# Altium schematic symbol library 野火_EBF6ULL S1 Mini 底板_V1.0_原理图封装_AD格式.SCHLIB: 67 symbols
Pins are listed as number, name and electrical type; pins without a type are passive.

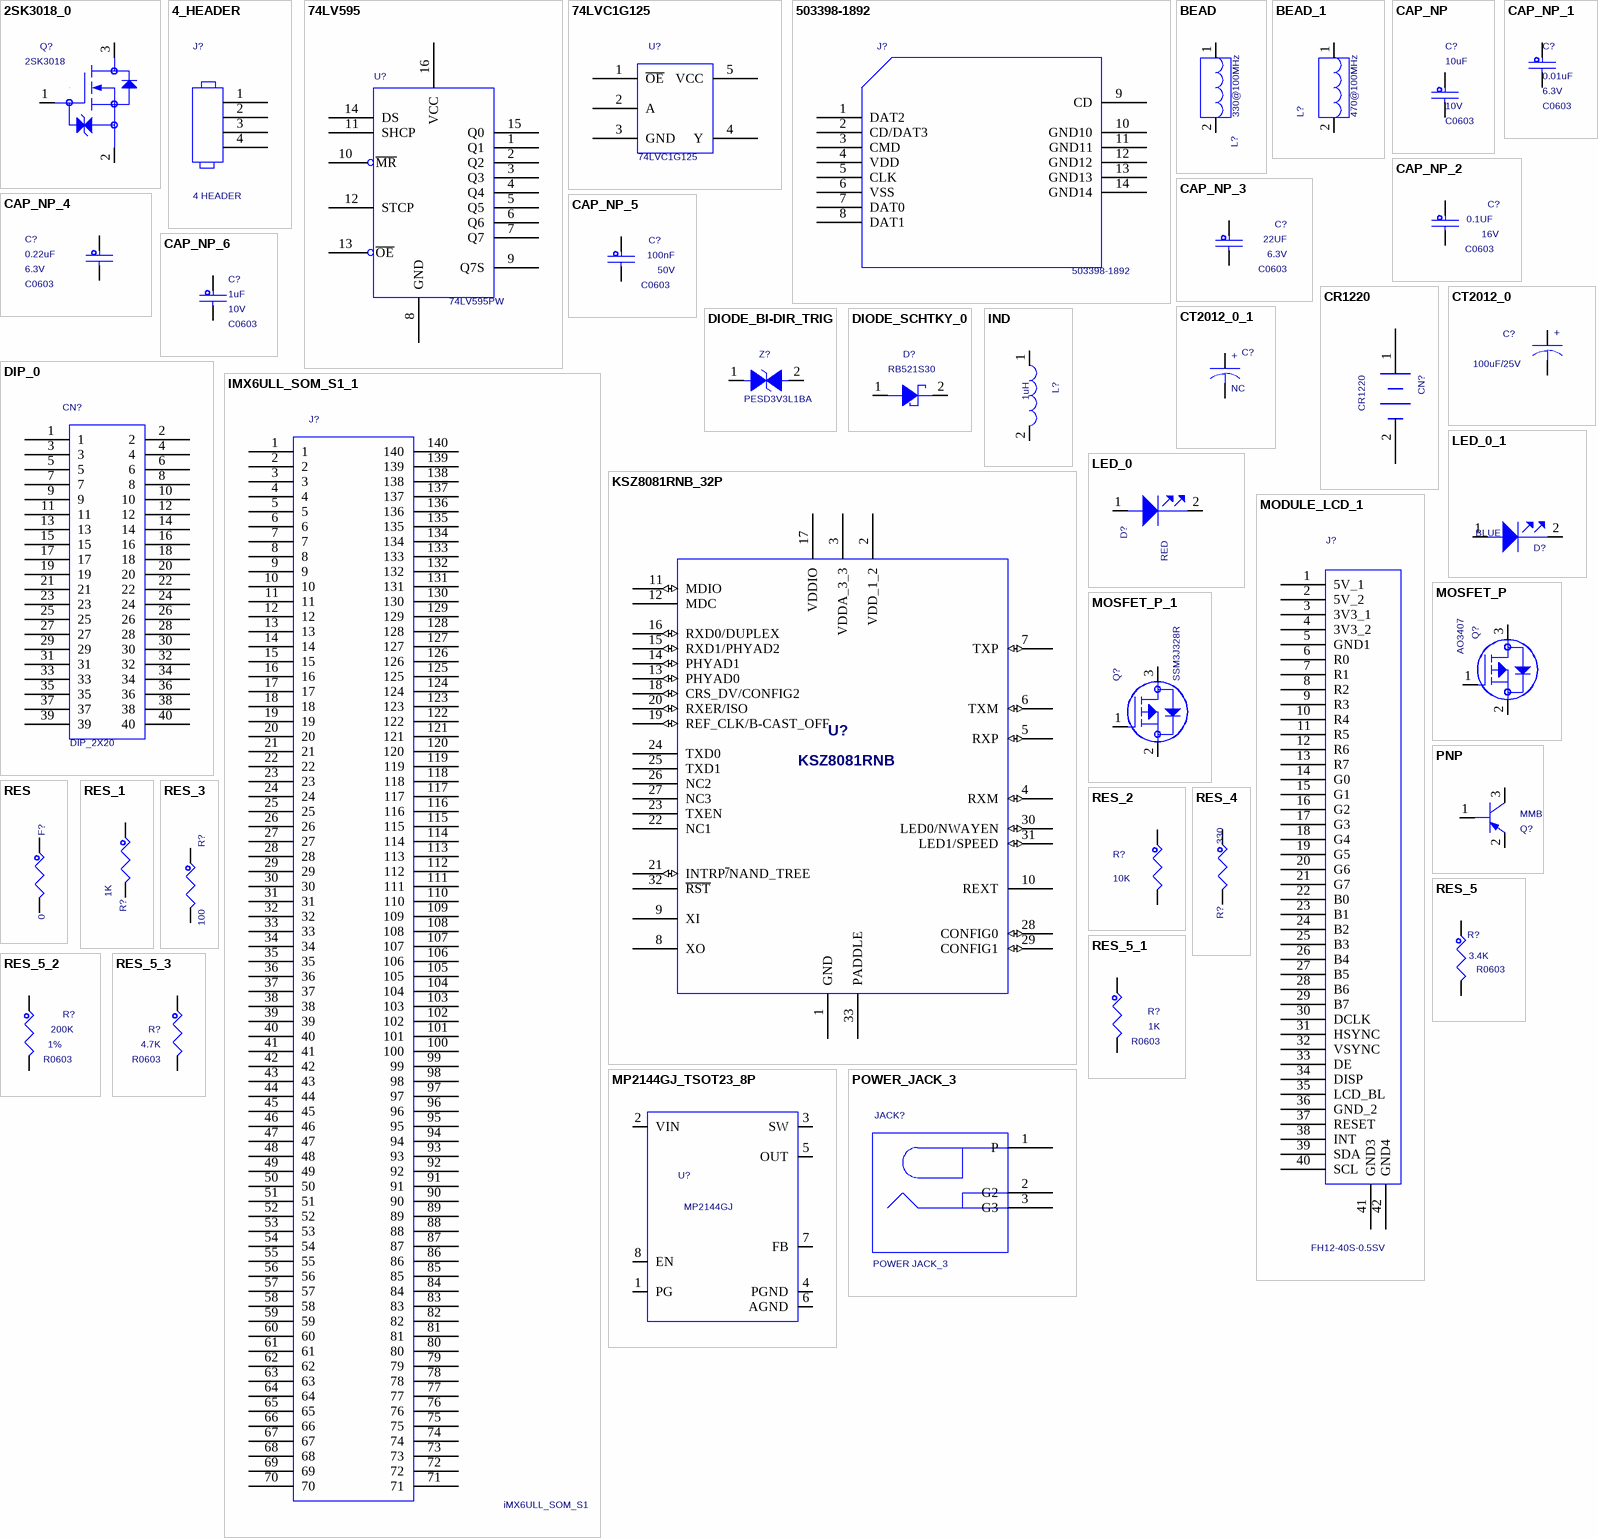
[diagram p0: symbols 2SK3018_0 to RES_5_3]

## 2SK3018_0
designator Q?  value 2SK3018  (hidden comment: 2SK3018_0)
TRANS MOSFET N-CH 30V .1A SOT-323; PCB DECAL: SOT23; AGILE_PN: 480-75317; MFG_NAME01: ROHM; MFG_PN01: 2SK3018T106; CAD_APPROVED: Yes; Source_Path: H:\NXP_RT1050\SCH\CORE_SCH\IMXRT1052_180113.DSN; CLASS: IC; ROHS: Yes; HEIGHT: 0.9MM
footprint SOT23
pins: 1 GATE, 2 SOURCE, 3 DRAIN

## 4_HEADER
designator J?  value 4 HEADER  (hidden comment: 4_HEADER)
PCB DECAL: XH2P54-4P; Source_Path: C:\MYPROGRAM\CADENCE\SPB_16.6\TOOLS\CAPTURE\LIBRARY\CONNECTOR.OLB
footprint XH2P54-4P
pins: 1, 2, 3, 4

## 74LV595
designator U?  value 74LV595PW  (hidden comment: 74LV595)
IC REG S 8BIT TS 1.0-3.6V TSSOP16; CAD_APPROVED: Yes; MFG_NAME01: PHILIPS SEMICONDUCTOR; AGILE_PN: 312-79843; Source_Path: Q:\ORCADCIS\SYMBOLS\FCL_IC5.OLB; HEIGHT: 1.1MM; ROHS: Yes; MFG_PN01: 74LV595PW; PCB DECAL: TSSOP16; CLASS: IC
footprint TSSOP16
pins: 1 Q1, 2 Q2, 3 Q3, 4 Q4, 5 Q5, 6 Q6, 7 Q7, 8 GND (power), 9 Q7S, 10 ~{MR}, 11 SHCP, 12 STCP, 13 ~{OE}, 14 DS, 15 Q0, 16 VCC (power)

## 74LVC1G125
designator U?
PCB DECAL: SOT-353; Source_Path: C:\MYPROGRAM\CADENCE\SPB_16.6\TOOLS\CAPTURE\LIBRARY\SCH.OLB; Value: 74LVC1G125
footprint SOT-353
pins: 1 ~{OE}, 2 A, 3 GND, 4 Y, 5 VCC

## 503398-1892
designator J?
PCB DECAL: SD-503398-003; Source_Path: F:\SCH-PCB\EBF_L003\SCH\SCH.OLB; CLASS: IO; Value: 503398-1892
footprint SD-503398-003
pins: 1 DAT2, 2 CD/DAT3, 3 CMD, 4 VDD (power), 5 CLK, 6 VSS (power), 7 DAT0, 8 DAT1, 9 CD, 10 GND10, 11 GND11, 12 GND12, 13 GND13, 14 GND14

## BEAD
designator L?  value 330@100MHz  (hidden comment: BEAD)
IND FER BEAD 330OHM@100MHZ 1.7A 0603; PART_TYPE: FERRITE\BEAD; AGILE_PN: 180-78156; Tolerance: 25%; MFG_NAME01: TDK; MFG_PN01: MPZ1608S331A; CAD_APPROVED: Yes; PCB DECAL: L0603; Source_Path: Q:\ORCADCIS\SYMBOLS\FCL_INDUCTOR.OLB; CLASS: DISCRETE; ROHS: Yes; HEIGHT: 0.95MM; TOL: 25%
footprint L0603
pins: 1, 2

## BEAD_1
designator L?, comment value 470@100MHz  (hidden comment: BEAD)
IND FER BEAD 330OHM@100MHZ 1.7A 0603; PART_TYPE: FERRITE\BEAD; TOL: 25%; CAD_APPROVED: Yes; MFG_PN01: MPZ1608S331A; MFG_NAME01: TDK; AGILE_PN: 180-78156; PCB DECAL: L0603; Source_Path: Q:\ORCADCIS\SYMBOLS\FCL_INDUCTOR.OLB; CLASS: DISCRETE; HEIGHT: 0.95MM; ROHS: Yes; Tolerance: 25%
footprint L0603
pins: 1, 2

## CAP_NP
designator C?  value 10uF  PCB DECAL: C0603  voltage_rating: 10V  (hidden comment: CAP_NP)
CAP CER 22UF 6.3V 20% X5R 0603; FPLIST: CC0603_OV,CC0603,0603_CC; CAD_APPROVED: Yes; MFG_PN01: CL10A226MQ8NRNE; MFG_NAME01: Samsung; AGILE_PN: 150-78467; Source_Path: Q:\ORCADCIS\SYMBOLS\FCL_CAPACITOR.OLB; CLASS: DISCRETE; VOLTAGE: 6.3V; HEIGHT: 1MM; ROHS: Yes; Tolerance: 20%
footprint C0603
pins: 1, 2

## CAP_NP_1
designator C?, comment value 0.01uF  VOLTAGE: 6.3V  PCB DECAL: C0603  (hidden comment: CAP_NP)
CAP CER 0.22UF 6.3V 20% X5R 0402; FPLIST: CC0402_25,CC0402_HD,0402_CC; CAD_APPROVED: Yes; MFG_PN01: C0402C224M9PAC; MFG_NAME01: KEMET; AGILE_PN: 150-76271; Source_Path: Q:\ORCADCIS\SYMBOLS\FCL_CAPACITOR.OLB; CLASS: DISCRETE; HEIGHT: 0.55MM; ROHS: Yes; Tolerance: 20%
footprint C0603
pins: 1, 2

## CAP_NP_2
designator C?, comment value 0.1UF  PCB DECAL: C0603  voltage_rating: 16V  (hidden comment: CAP_NP)
CAP CER 22UF 6.3V 20% X5R 0603; FPLIST: CC0603_OV,CC0603,0603_CC; CAD_APPROVED: Yes; MFG_PN01: CL10A226MQ8NRNE; MFG_NAME01: Samsung; AGILE_PN: 150-78467; Source_Path: Q:\ORCADCIS\SYMBOLS\FCL_CAPACITOR.OLB; CLASS: DISCRETE; VOLTAGE: 6.3V; HEIGHT: 1MM; ROHS: Yes; Tolerance: 20%
footprint C0603
pins: 1, 2

## CAP_NP_3
designator C?, comment value 22UF  PCB DECAL: C0603  voltage_rating: 6.3V  (hidden comment: CAP_NP)
CAP CER 22UF 6.3V 20% X5R 0603; FPLIST: CC0603_OV,CC0603,0603_CC; CAD_APPROVED: Yes; MFG_PN01: CL10A226MQ8NRNE; MFG_NAME01: Samsung; AGILE_PN: 150-78467; Source_Path: Q:\ORCADCIS\SYMBOLS\FCL_CAPACITOR.OLB; CLASS: DISCRETE; VOLTAGE: 6.3V; HEIGHT: 1MM; ROHS: Yes; Tolerance: 20%
footprint C0603
pins: 1, 2

## CAP_NP_4
designator C?, comment value 0.22uF  VOLTAGE: 6.3V  PCB DECAL: C0603  (hidden comment: CAP_NP)
CAP CER 0.22UF 6.3V 20% X5R 0402; FPLIST: CC0402_25,CC0402_HD,0402_CC; CAD_APPROVED: Yes; MFG_PN01: C0402C224M9PAC; MFG_NAME01: KEMET; AGILE_PN: 150-76271; Source_Path: Q:\ORCADCIS\SYMBOLS\FCL_CAPACITOR.OLB; CLASS: DISCRETE; HEIGHT: 0.55MM; ROHS: Yes; Tolerance: 20%
footprint C0603
pins: 1, 2

## CAP_NP_5
designator C?, comment value 100nF  voltage_rating: 50V  PCB DECAL: C0603  (hidden comment: CAP_NP)
CAP CER 22UF 6.3V 20% X5R 0603; FPLIST: CC0603_OV,CC0603,0603_CC; CAD_APPROVED: Yes; MFG_PN01: CL10A226MQ8NRNE; MFG_NAME01: Samsung; AGILE_PN: 150-78467; Source_Path: Q:\ORCADCIS\SYMBOLS\FCL_CAPACITOR.OLB; CLASS: DISCRETE; VOLTAGE: 6.3V; HEIGHT: 1MM; ROHS: Yes; Tolerance: 20%
footprint C0603
pins: 1, 2

## CAP_NP_6
designator C?, comment value 1uF  PCB DECAL: C0603  voltage_rating: 10V  (hidden comment: CAP_NP)
CAP CER 22UF 6.3V 20% X5R 0603; AGILE_PN: 150-78467; MFG_NAME01: Samsung; MFG_PN01: CL10A226MQ8NRNE; CAD_APPROVED: Yes; FPLIST: CC0603_OV,CC0603,0603_CC; Source_Path: Q:\ORCADCIS\SYMBOLS\FCL_CAPACITOR.OLB; CLASS: DISCRETE; Tolerance: 20%; ROHS: Yes; HEIGHT: 1MM; VOLTAGE: 6.3V
footprint C0603
pins: 1, 2

## CR1220
designator CN?
Source_Path: H:\NXP_RT1050\SCH\SCHLIB\YHSCHLIB.OLB; PCB DECAL: CR1220; Value: CR1220
footprint CR1220
pins: 1 BAT, 2 GND

## CT2012_0
designator C?  value 100uF/25V  (hidden comment: CT2012_0)
PCB DECAL: EC6P3; Source_Path: D:\01_LSI_PROJECT\C100\00.SMDK俺惯\SCHEMATICS\C100\C100_CPU.OLB
footprint EC6P3
pins: 1, 2
text: +

## CT2012_0_1
designator C?, comment value NC  (hidden comment: CT2012_0)
PCB DECAL: CAP100; Source_Path: D:\01_LSI_PROJECT\C100\00.SMDK俺惯\SCHEMATICS\C100\C100_CPU.OLB
footprint CAP100
pins: 1, 2
text: +

## DIODE_BI-DIR_TRIG
designator Z?  value PESD3V3L1BA  (hidden comment: DIODE_BI-DIR_TRIG)
Assembly: NC; ROOM: B-VGA_IN; PCB DECAL: SOD323; Source_Path: D:\PCB_DATA\ORCAD_LIB\LRY2.OLB; Package: D0603
footprint SOD323
pins: 1, 2

## DIODE_SCHTKY_0
designator D?  value RB521S30  (hidden comment: DIODE_SCHTKY_0)
DIODE SCH RECT 200MA 30V AEC-Q101 SOD-523; PCB DECAL: SOD523; AGILE_PN: 480-79672; MFG_NAME01: NEXPERIA; MFG_PN01: RB521S30,115; CAD_APPROVED: Yes; Source_Path: H:\NXP_RT1050\SCH\IMXRT1052_CORE\CORE\IMXRT1052_1207.DSN; CLASS: IC; ROHS: Yes; HEIGHT: 0.65MM
footprint SOD523
pins: 1, 2

## DIP_0
designator CN?  value DIP_2X20  (hidden comment: DIP_0)
PCB DECAL: DIP-2X20_2P54; Source_Path: F:\SCH-PCB\EBF_L007\SCH\EBF_L007_190720.DSN
footprint DIP-2X20_2P54
pins: 1, 2, 3, 4, 5, 6, 7, 8, 9, 10, 11, 12, 13, 14, 15, 16, 17, 18, 19, 20, 21, 22, 23, 24, 25, 26, 27, 28, 29, 30, 31, 32, 33, 34, 35, 36, 37, 38, 39, 40

## IMX6ULL_SOM_S1_1
designator J?  value iMX6ULL_SOM_S1  (hidden comment: IMX6ULL_SOM_S1_1)
PCB DECAL: IMX6ULL_SOM_S1_140P_39X39; Source_Path: F:\SCH-PCB\EBF_L004\SCH\EBF_L004_0620.DSN
footprint IMX6ULL_SOM_S1_140P_39X39
pins: 1, 2, 3, 4, 5, 6, 7, 8, 9, 10, 11, 12, 13, 14, 15, 16, 17, 18, 19, 20, 21, 22, 23, 24, 25, 26, 27, 28, 29, 30, 31, 32, 33, 34, 35, 36, 37, 38, 39, 40, 41, 42, 43, 44, 45, 46, 47, 48, 49, 50, 51, 52, 53, 54, 55, 56, 57, 58, 59, 60, 61, 62, 63, 64, 65, 66, 67, 68, 69, 70, 71, 72, 73, 74, 75, 76, 77, 78, 79, 80, 81, 82, 83, 84, 85, 86, 87, 88, 89, 90, 91, 92, 93, 94, 95, 96, 97, 98, 99, 100, 101, 102, 103, 104, 105, 106, 107, 108, 109, 110, 111, 112, 113, 114, 115, 116, 117, 118, 119, 120, 121, 122, 123, 124, 125, 126, 127, 128, 129, 130, 131, 132, 133, 134, 135, 136, 137, 138, 139, 140

## IND
designator L?  value 1uH  (hidden comment: IND)
IND PWR 1UH@100KHZ 2.6A 30% SMT; PART_TYPE: INDUCTOR\POWER; PCB DECAL: L4018; CAD_APPROVED: Yes; MFG_PN01: SWPA4020S1R0NT; MFG_NAME01: Shenzhen Sunlord Electronics Co., Ltd; AGILE_PN: 180-77797; Source_Path: Q:\ORCADCIS\SYMBOLS\FCL_INDUCTOR.OLB; CLASS: DISCRETE; HEIGHT: 2.2MM; ROHS: Yes; TOL: 30%; Tolerance: 30%
footprint L4018
pins: 1, 2

## KSZ8081RNB_32P
designator U?  value KSZ8081RNB  (hidden comment: KSZ8081RNB_32P)
IC XCVR 10/100M EPHY 3.3V QFN32; PCB DECAL: QFN32_0P5_EP3P3; AGILE_PN: 312-81089; MFG_NAME01: Micrel; MFG_PN01: KSZ8081RNBIA; CAD_APPROVED: Yes; Source_Path: Q:\ORCADCIS\SYMBOLS\FCL_IC5.OLB; ROHS: Yes; HEIGHT: 0.9MM; CLASS: IC
footprint QFN32_0P5_EP3P3
pins: 1 GND (power), 2 VDD_1_2 (power), 3 VDDA_3_3 (power), 4 RXM (io), 5 RXP (io), 6 TXM (io), 7 TXP (io), 8 XO, 9 XI, 10 REXT, 11 MDIO (io), 12 MDC, 13 PHYAD0 (io), 14 PHYAD1 (io), 15 RXD1/PHYAD2 (io), 16 RXD0/DUPLEX (io), 17 VDDIO (power), 18 CRS_DV/CONFIG2 (io), 19 REF_CLK/B-CAST_OFF (io), 20 RXER/ISO (io), 21 INTRP~{/}NAND_TREE (io), 22 NC1, 23 TXEN, 24 TXD0, 25 TXD1, 26 NC2, 27 NC3, 28 CONFIG0 (io), 29 CONFIG1 (io), 30 LED0/NWAYEN (io), 31 LED1/SPEED (io), 32 ~{RST}, 33 PADDLE (power)

## LED_0
designator D?  value RED  (hidden comment: LED_0)
LED GRN SGL 25MA 0603; PCB DECAL: LED0603; AGILE_PN: 370-76549; MFG_NAME01: KINGBRIGHT; MFG_PN01: KPT-1608SGC; CAD_APPROVED: Yes; Source_Path: H:\NXP_RT1050\SCH\IMXRT1052_CORE\CORE\IMXRT1052_1207.DSN; CLASS: IC; ROHS: Yes; HEIGHT: 0.85MM
footprint LED0603
pins: 1 ANODE, 2 CATHODE

## LED_0_1
designator D?, comment value BLUE  (hidden comment: LED_0)
LED GRN SGL 25MA 0603; PCB DECAL: LED0603; CAD_APPROVED: Yes; MFG_PN01: KPT-1608SGC; MFG_NAME01: KINGBRIGHT; AGILE_PN: 370-76549; Source_Path: H:\NXP_RT1050\SCH\IMXRT1052_CORE\CORE\IMXRT1052_1207.DSN; CLASS: IC; HEIGHT: 0.85MM; ROHS: Yes
footprint LED0603
pins: 1 ANODE, 2 CATHODE

## MODULE_LCD_1
designator J?  value FH12-40S-0.5SV  (hidden comment: MODULE_LCD_1)
SUBASSEMBLY CON 1X40 FPC SMT RA + CON 1X6 FPC/FFC RA SKT + TFT DISPLAY 4.3INCH; PCB DECAL: FH12-40S-0P5SV; CAD_APPROVED: Yes; MFG_PN01: 211-79974,211-79976,375-00010; AGILE_PN: 750-77763; Source_Path: F:\SCH-PCB\EBF_L007\SCH\EBF_L007_190919_1.DSN; CLASS: IO; HEIGHT: 6.75MM; ROHS: Yes; MFG_NAME01: SUBASSEMBLY
footprint FH12-40S-0P5SV
pins: 1 5V_1, 2 5V_2, 3 3V3_1, 4 3V3_2, 5 GND1, 6 R0, 7 R1, 8 R2, 9 R3, 10 R4, 11 R5, 12 R6, 13 R7, 14 G0, 15 G1, 16 G2, 17 G3, 18 G4, 19 G5, 20 G6, 21 G7, 22 B0, 23 B1, 24 B2, 25 B3, 26 B4, 27 B5, 28 B6, 29 B7, 30 DCLK, 31 HSYNC, 32 VSYNC, 33 DE, 34 DISP, 35 LCD_BL, 36 GND_2, 37 RESET, 38 INT, 39 SDA, 40 SCL, 41 GND3, 42 GND4

## MOSFET_P
designator Q?  value AO3407  (hidden comment: MOSFET_P)
TRAN PMOS PWR 12V 4.3A SOT23; CAD_APPROVED: Yes; MFG_PN01: IRLML6401TRPBF; MFG_NAME01: INTERNATIONAL RECTIFIER; AGILE_PN: 480-77718; Source_Path: Q:\ORCADCIS\SYMBOLS\FCL_SEMICONDUCTOR.OLB; CLASS: IC; PCB DECAL: SOT23; HEIGHT: 1.12MM; ROHS: Yes
footprint SOT23
pins: 1 GATE, 2 SOURCE, 3 DRAIN

## MOSFET_P_1
designator Q?, comment value SSM3J328R  (hidden comment: MOSFET_P)
TRAN PMOS PWR 12V 4.3A SOT23; AGILE_PN: 480-77718; MFG_NAME01: INTERNATIONAL RECTIFIER; MFG_PN01: IRLML6401TRPBF; CAD_APPROVED: Yes; Source_Path: Q:\ORCADCIS\SYMBOLS\FCL_SEMICONDUCTOR.OLB; CLASS: IC; ROHS: Yes; HEIGHT: 1.12MM; PCB DECAL: SOT23
footprint SOT23
pins: 1 GATE, 2 SOURCE, 3 DRAIN

## MP2144GJ_TSOT23_8P
designator U?  value MP2144GJ  (hidden comment: MP2144GJ_TSOT23_8P)
IC SYNC STEP-DOWN SW 1.2MHZ 0.6V 2A 2.5-5.5V TSOT23-8; AGILE_PN: 315-80508; MFG_NAME01: MONOLITHIC POWER SYSTEMS; CAD_APPROVED: Yes; Source_Path: Q:\ORCADCIS\SYMBOLS\FCL_IC2.OLB; PCB DECAL: TSOT23-8; MFG_PN01: MP2144GJ; ROHS: Yes; HEIGHT: 1MM; CLASS: IC
footprint TSOT23-8
pins: 1 PG (oc), 2 VIN (power), 3 SW, 4 PGND (power), 5 OUT, 6 AGND (power), 7 FB, 8 EN

## PNP
designator Q?  value MMBT3906TT1G  (hidden comment: PNP)
TRAN PNP GEN AMP 200MA 40V AEC-Q101 SC75; PCB DECAL: SOT23; CAD_APPROVED: Yes; MFG_NAME01: ON SEMICONDUCTOR; AGILE_PN: 480-78465; Source_Path: Q:\ORCADCIS\SYMBOLS\FCL_SEMICONDUCTOR.OLB; CLASS: IC; HEIGHT: 0.9 MM; ROHS: Yes; MFG_PN01: MMBT3906TT1G
footprint SOT23
pins: 1 B, 2 E, 3 C

## POWER_JACK_3
designator JACK?  value POWER JACK_3  (hidden comment: POWER_JACK_3)
PCB DECAL: JACK-2_5MM_B; Source_Path: E:\WORK\SCH5\X\SCH\DEVELOP_BOARD_V1-5-21.DSN
footprint JACK-2_5MM_B
pins: 1 P, 2 G2, 3 G3

## RES
designator F?  value 0  (hidden comment: RES)
RES MF 1.0M 1/10W 5% 0402; AGILE_PN: 470-79978; MFG_NAME01: PANASONIC; MFG_PN01: ERJ-2GEJ105X; CAD_APPROVED: Yes; FPLIST: RC0402_25,RC0402_HD,0402_CC; PCB DECAL: F0805; Source_Path: Q:\ORCADCIS\SYMBOLS\FCL_RESISTOR.OLB; CLASS: DISCRETE; HEIGHT: 0.4MM; Tolerance: 5%; ROHS: Yes
footprint F0805
pins: 1, 2

## RES_1
designator R?, comment value 1K  (hidden comment: RES)
RES MF 1.0M 1/10W 5% 0402; PCB DECAL: R0603; AGILE_PN: 470-79978; MFG_NAME01: PANASONIC; MFG_PN01: ERJ-2GEJ105X; CAD_APPROVED: Yes; FPLIST: RC0402_25,RC0402_HD,0402_CC; Source_Path: Q:\ORCADCIS\SYMBOLS\FCL_RESISTOR.OLB; CLASS: DISCRETE; HEIGHT: 0.4MM; Tolerance: 5%; ROHS: Yes
footprint R0603
pins: 1, 2

## RES_2
designator R?, comment value 10K  (hidden comment: RES)
RES MF 10K 1/16W 5% 0402; PCB DECAL: R0603; AGILE_PN: 470-75557; MFG_NAME01: VISHAY INTERTECHNOLOGY; MFG_PN01: CRCW040210K0JNED; CAD_APPROVED: Yes; FPLIST: RC0402_25,RC0402_HD,0402_CC; Source_Path: Q:\ORCADCIS\SYMBOLS\FCL_RESISTOR.OLB; CLASS: DISCRETE; HEIGHT: 0.4 MM; TOL: 5%; Tolerance: 5%; ROHS: Yes
footprint R0603
pins: 1, 2

## RES_3
designator R?, comment value 100  (hidden comment: RES)
RES MF 100 OHM 1/16W 1% 0402; PCB DECAL: R0603; AGILE_PN: 470-30454; MFG_NAME01: THYE MING TECH CO LTD; MFG_PN01: CR-02FL6--100R; CAD_APPROVED: Yes; FPLIST: RC0402_25,RC0402_HD,0402_CC; Source_Path: Q:\ORCADCIS\SYMBOLS\FCL_RESISTOR.OLB; CLASS: DISCRETE; HEIGHT: 0.4 MM; Tolerance: 1%; ROHS: Yes
footprint R0603
pins: 1, 2

## RES_4
designator R?, comment value 330  (hidden comment: RES)
RES MF 1.0M 1/10W 5% 0402; AGILE_PN: 470-79978; MFG_NAME01: PANASONIC; MFG_PN01: ERJ-2GEJ105X; CAD_APPROVED: Yes; FPLIST: RC0402_25,RC0402_HD,0402_CC; PCB DECAL: R0603; Source_Path: Q:\ORCADCIS\SYMBOLS\FCL_RESISTOR.OLB; CLASS: DISCRETE; HEIGHT: 0.4MM; Tolerance: 5%; ROHS: Yes
footprint R0603
pins: 1, 2

## RES_5
designator R?  value 3.4K  PCB DECAL: R0603  (hidden comment: RES_5)
RES MF 4.7K 1/16W 5% 0402; AGILE_PN: 470-75626; MFG_NAME01: KOA SPEER; MFG_PN01: RK73B1ETTP472J; CAD_APPROVED: Yes; FPLIST: RC0402_25,RC0402_HD,0402_CC; Source_Path: F:\NXP\RT1020\SCH\IMXRT1021_0928_1.DSN; CLASS: DISCRETE; Tolerance: 5%; ROHS: Yes; HEIGHT: 0.41mm
footprint R0603
pins: 1, 2

## RES_5_1
designator R?, comment value 1K  PCB DECAL: R0603  (hidden comment: RES_5)
RES MF 10K 1/16W 5% 0402; FPLIST: RC0402_25,RC0402_HD,0402_CC; CAD_APPROVED: Yes; MFG_PN01: CRCW040210K0JNED; MFG_NAME01: VISHAY INTERTECHNOLOGY; AGILE_PN: 470-75557; Source_Path: F:\NXP\RT1020\SCH\IMXRT1021_0928_1.DSN; CLASS: DISCRETE; HEIGHT: 0.4 MM; ROHS: Yes; Tolerance: 5%
footprint R0603
pins: 1, 2

## RES_5_2
designator R?, comment value 200K  PCB DECAL: R0603  Tolerance: 1%  (hidden comment: RES_5)
RES MF 180K 1/10W 1% AEC-Q200 0402; AGILE_PN: 470-31088; MFG_NAME01: KOA SPEER; MFG_PN01: RK73H1ETTP1803F; CAD_APPROVED: Yes; FPLIST: RC0402_25,RC0402_HD,0402_CC; Temp_Range: -55C to +155C; Source_Path: F:\NXP\RT1020\SCH\IMXRT1021_0928_1.DSN; CLASS: DISCRETE; ROHS: Yes; HEIGHT: 0.40 MM
footprint R0603
pins: 1, 2

## RES_5_3
designator R?, comment value 4.7K  PCB DECAL: R0603  (hidden comment: RES_5)
RES MF 10K 1/16W 5% 0402; FPLIST: RC0402_25,RC0402_HD,0402_CC; CAD_APPROVED: Yes; MFG_PN01: CRCW040210K0JNED; MFG_NAME01: VISHAY INTERTECHNOLOGY; AGILE_PN: 470-75557; Source_Path: F:\NXP\RT1020\SCH\IMXRT1021_0928_1.DSN; CLASS: DISCRETE; HEIGHT: 0.4 MM; ROHS: Yes; Tolerance: 5%
footprint R0603
pins: 1, 2

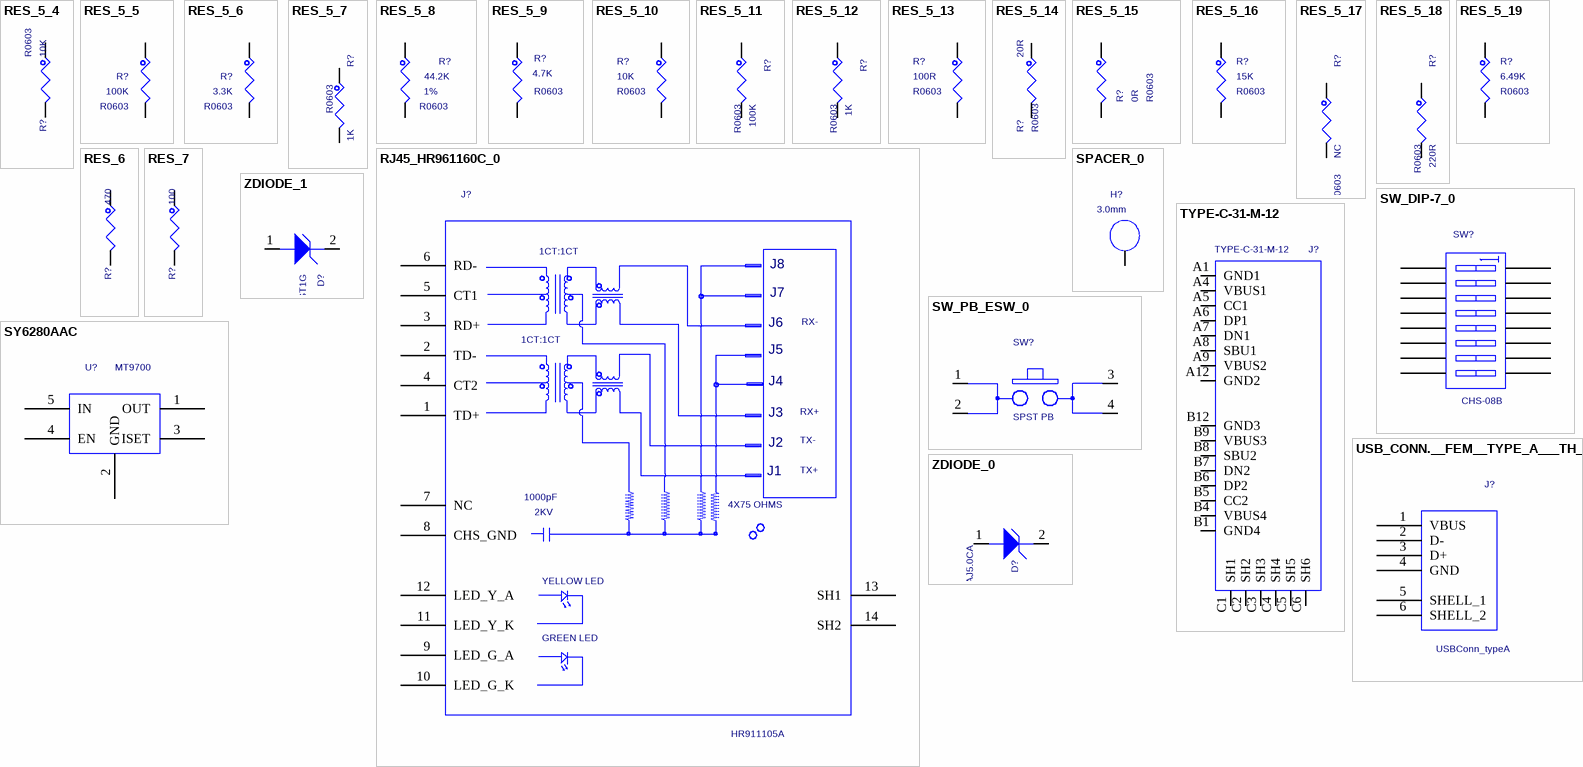
[diagram p1: symbols RES_5_4 to ZDIODE_1]

## RES_5_4
designator R?, comment value 10K  PCB DECAL: R0603  (hidden comment: RES_5)
RES MF 10K 1/16W 5% 0402; FPLIST: RC0402_25,RC0402_HD,0402_CC; CAD_APPROVED: Yes; MFG_PN01: CRCW040210K0JNED; MFG_NAME01: VISHAY INTERTECHNOLOGY; AGILE_PN: 470-75557; Source_Path: F:\NXP\RT1020\SCH\IMXRT1021_0928_1.DSN; CLASS: DISCRETE; HEIGHT: 0.4 MM; ROHS: Yes; Tolerance: 5%
footprint R0603
pins: 1, 2

## RES_5_5
designator R?, comment value 100K  PCB DECAL: R0603  (hidden comment: RES_5)
RES MF 10K 1/16W 5% 0402; AGILE_PN: 470-75557; MFG_NAME01: VISHAY INTERTECHNOLOGY; MFG_PN01: CRCW040210K0JNED; CAD_APPROVED: Yes; FPLIST: RC0402_25,RC0402_HD,0402_CC; Source_Path: F:\NXP\RT1020\SCH\IMXRT1021_0928_1.DSN; CLASS: DISCRETE; Tolerance: 5%; ROHS: Yes; HEIGHT: 0.4 MM
footprint R0603
pins: 1, 2

## RES_5_6
designator R?, comment value 3.3K  PCB DECAL: R0603  (hidden comment: RES_5)
RES MF 10K 1/16W 5% 0402; FPLIST: RC0402_25,RC0402_HD,0402_CC; CAD_APPROVED: Yes; MFG_PN01: CRCW040210K0JNED; MFG_NAME01: VISHAY INTERTECHNOLOGY; AGILE_PN: 470-75557; Source_Path: F:\NXP\RT1020\SCH\IMXRT1021_0928_1.DSN; CLASS: DISCRETE; HEIGHT: 0.4 MM; ROHS: Yes; Tolerance: 5%
footprint R0603
pins: 1, 2

## RES_5_7
designator R?, comment value 1K  PCB DECAL: R0603  (hidden comment: RES_5)
RES MF ZERO OHM 1/16W 5% 0402; AGILE_PN: 470-75394; MFG_NAME01: ROHM; MFG_PN01: MCR01MZPJ000; CAD_APPROVED: Yes; FPLIST: RC0402_25,RC0402_HD,RC0402_X2,0402_CC; Source_Path: F:\NXP\RT1020\SCH\IMXRT1021_0928_1.DSN; CLASS: DISCRETE; HEIGHT: 0.45 MM; Tolerance: 5%; ROHS: Yes
footprint R0603
pins: 1, 2

## RES_5_8
designator R?, comment value 44.2K  PCB DECAL: R0603  Tolerance: 1%  (hidden comment: RES_5)
RES MF 180K 1/10W 1% AEC-Q200 0402; AGILE_PN: 470-31088; MFG_NAME01: KOA SPEER; MFG_PN01: RK73H1ETTP1803F; CAD_APPROVED: Yes; FPLIST: RC0402_25,RC0402_HD,0402_CC; Temp_Range: -55C to +155C; Source_Path: F:\NXP\RT1020\SCH\IMXRT1021_0928_1.DSN; CLASS: DISCRETE; ROHS: Yes; HEIGHT: 0.40 MM
footprint R0603
pins: 1, 2

## RES_5_9
designator R?, comment value 4.7K  PCB DECAL: R0603  (hidden comment: RES_5)
RES MF 4.7K 1/16W 5% 0402; FPLIST: RC0402_25,RC0402_HD,0402_CC; CAD_APPROVED: Yes; MFG_PN01: RK73B1ETTP472J; MFG_NAME01: KOA SPEER; AGILE_PN: 470-75626; Source_Path: F:\NXP\RT1020\SCH\IMXRT1021_0928_1.DSN; CLASS: DISCRETE; HEIGHT: 0.41mm; ROHS: Yes; Tolerance: 5%
footprint R0603
pins: 1, 2

## RES_5_10
designator R?, comment value 10K  PCB DECAL: R0603  (hidden comment: RES_5)
RES MF 4.7K 1/16W 5% 0402; FPLIST: RC0402_25,RC0402_HD,0402_CC; CAD_APPROVED: Yes; MFG_PN01: RK73B1ETTP472J; MFG_NAME01: KOA SPEER; AGILE_PN: 470-75626; Source_Path: F:\NXP\RT1020\SCH\IMXRT1021_0928_1.DSN; CLASS: DISCRETE; HEIGHT: 0.41mm; ROHS: Yes; Tolerance: 5%
footprint R0603
pins: 1, 2

## RES_5_11
designator R?, comment value 100K  PCB DECAL: R0603  (hidden comment: RES_5)
RES MF 4.7K 1/16W 5% 0402; FPLIST: RC0402_25,RC0402_HD,0402_CC; CAD_APPROVED: Yes; MFG_PN01: RK73B1ETTP472J; MFG_NAME01: KOA SPEER; AGILE_PN: 470-75626; Source_Path: F:\NXP\RT1020\SCH\IMXRT1021_0928_1.DSN; CLASS: DISCRETE; HEIGHT: 0.41mm; ROHS: Yes; Tolerance: 5%
footprint R0603
pins: 1, 2

## RES_5_12
designator R?, comment value 1K  PCB DECAL: R0603  (hidden comment: RES_5)
RES MF 4.7K 1/16W 5% 0402; FPLIST: RC0402_25,RC0402_HD,0402_CC; CAD_APPROVED: Yes; MFG_PN01: RK73B1ETTP472J; MFG_NAME01: KOA SPEER; AGILE_PN: 470-75626; Source_Path: F:\NXP\RT1020\SCH\IMXRT1021_0928_1.DSN; CLASS: DISCRETE; HEIGHT: 0.41mm; ROHS: Yes; Tolerance: 5%
footprint R0603
pins: 1, 2

## RES_5_13
designator R?, comment value 100R  PCB DECAL: R0603  (hidden comment: RES_5)
RES MF 4.7K 1/16W 5% 0402; FPLIST: RC0402_25,RC0402_HD,0402_CC; CAD_APPROVED: Yes; MFG_PN01: RK73B1ETTP472J; MFG_NAME01: KOA SPEER; AGILE_PN: 470-75626; Source_Path: F:\NXP\RT1020\SCH\IMXRT1021_0928_1.DSN; CLASS: DISCRETE; HEIGHT: 0.41mm; ROHS: Yes; Tolerance: 5%
footprint R0603
pins: 1, 2

## RES_5_14
designator R?, comment value 20R  PCB DECAL: R0603  (hidden comment: RES_5)
RES MF 4.7K 1/16W 5% 0402; FPLIST: RC0402_25,RC0402_HD,0402_CC; CAD_APPROVED: Yes; MFG_PN01: RK73B1ETTP472J; MFG_NAME01: KOA SPEER; AGILE_PN: 470-75626; Source_Path: F:\NXP\RT1020\SCH\IMXRT1021_0928_1.DSN; CLASS: DISCRETE; HEIGHT: 0.41mm; ROHS: Yes; Tolerance: 5%
footprint R0603
pins: 1, 2

## RES_5_15
designator R?, comment value 0R  PCB DECAL: R0603  (hidden comment: RES_5)
RES MF 4.7K 1/16W 5% 0402; AGILE_PN: 470-75626; MFG_NAME01: KOA SPEER; MFG_PN01: RK73B1ETTP472J; CAD_APPROVED: Yes; FPLIST: RC0402_25,RC0402_HD,0402_CC; Source_Path: F:\NXP\RT1020\SCH\IMXRT1021_0928_1.DSN; CLASS: DISCRETE; Tolerance: 5%; ROHS: Yes; HEIGHT: 0.41mm
footprint R0603
pins: 1, 2

## RES_5_16
designator R?, comment value 15K  PCB DECAL: R0603  (hidden comment: RES_5)
RES MF 4.7K 1/16W 5% 0402; AGILE_PN: 470-75626; MFG_NAME01: KOA SPEER; MFG_PN01: RK73B1ETTP472J; CAD_APPROVED: Yes; FPLIST: RC0402_25,RC0402_HD,0402_CC; Source_Path: F:\NXP\RT1020\SCH\IMXRT1021_0928_1.DSN; CLASS: DISCRETE; Tolerance: 5%; ROHS: Yes; HEIGHT: 0.41mm
footprint R0603
pins: 1, 2

## RES_5_17
designator R?, comment value NC  PCB DECAL: R0603  (hidden comment: RES_5)
RES MF 4.7K 1/16W 5% 0402; FPLIST: RC0402_25,RC0402_HD,0402_CC; CAD_APPROVED: Yes; MFG_PN01: RK73B1ETTP472J; MFG_NAME01: KOA SPEER; AGILE_PN: 470-75626; Source_Path: F:\NXP\RT1020\SCH\IMXRT1021_0928_1.DSN; CLASS: DISCRETE; HEIGHT: 0.41mm; ROHS: Yes; Tolerance: 5%
footprint R0603
pins: 1, 2

## RES_5_18
designator R?, comment value 220R  PCB DECAL: R0603  (hidden comment: RES_5)
RES MF 4.7K 1/16W 5% 0402; AGILE_PN: 470-75626; MFG_NAME01: KOA SPEER; MFG_PN01: RK73B1ETTP472J; CAD_APPROVED: Yes; FPLIST: RC0402_25,RC0402_HD,0402_CC; Source_Path: F:\NXP\RT1020\SCH\IMXRT1021_0928_1.DSN; CLASS: DISCRETE; Tolerance: 5%; ROHS: Yes; HEIGHT: 0.41mm
footprint R0603
pins: 1, 2

## RES_5_19
designator R?, comment value 6.49K  PCB DECAL: R0603  (hidden comment: RES_5)
RES MF 4.7K 1/16W 5% 0402; FPLIST: RC0402_25,RC0402_HD,0402_CC; CAD_APPROVED: Yes; MFG_PN01: RK73B1ETTP472J; MFG_NAME01: KOA SPEER; AGILE_PN: 470-75626; Source_Path: F:\NXP\RT1020\SCH\IMXRT1021_0928_1.DSN; CLASS: DISCRETE; HEIGHT: 0.41mm; ROHS: Yes; Tolerance: 5%
footprint R0603
pins: 1, 2

## RES_6
designator R?, comment value 470  (hidden comment: RES)
RES MF 1.0M 1/10W 5% 0402; AGILE_PN: 470-79978; MFG_NAME01: PANASONIC; MFG_PN01: ERJ-2GEJ105X; CAD_APPROVED: Yes; FPLIST: RC0402_25,RC0402_HD,0402_CC; PCB DECAL: R0603; Source_Path: Q:\ORCADCIS\SYMBOLS\FCL_RESISTOR.OLB; CLASS: DISCRETE; HEIGHT: 0.4MM; Tolerance: 5%; ROHS: Yes
footprint R0603
pins: 1, 2

## RES_7
designator R?, comment value 100  (hidden comment: RES)
RES MF 1.0M 1/10W 5% 0402; AGILE_PN: 470-79978; MFG_NAME01: PANASONIC; MFG_PN01: ERJ-2GEJ105X; CAD_APPROVED: Yes; FPLIST: RC0402_25,RC0402_HD,0402_CC; PCB DECAL: R0603; Source_Path: Q:\ORCADCIS\SYMBOLS\FCL_RESISTOR.OLB; CLASS: DISCRETE; HEIGHT: 0.4MM; Tolerance: 5%; ROHS: Yes
footprint R0603
pins: 1, 2

## RJ45_HR961160C_0
designator J?  value HR911105A  (hidden comment: RJ45_HR961160C_0)
CON 12 RJ45 SHLD RA SM 1.02MM SP 625H --; CAD_APPROVED: Yes; MFG_NAME01: HanRun Electronics Co., Ltd; AGILE_PN: 211-79967; Source_Path: H:\NXP_RT1050\SCH\IMXRT1052_MB.DSN; CLASS: IO; HEIGHT: 15.88 MM; ROHS: Yes; MFG_PN01: HR961160C; PCB DECAL: RJ45
footprint RJ45
pins: 1 TD+, 2 TD-, 3 RD+, 4 CT2, 5 CT1, 6 RD-, 7 NC, 8 CHS_GND, 9 LED_G_A, 10 LED_G_K, 11 LED_Y_K, 12 LED_Y_A, 13 SH1, 14 SH2
text: 1CT:1CT; J8; J7; RX-; J6; J5; J4; RX+; J3; TX-; J2; TX+; J1; 1000pF; 4X75 OHMS; 2KV; YELLOW LED; GREEN LED

## SPACER_0
designator H?  value 3.0mm  (hidden comment: SPACER_0)
FASTENER, STANDOFF 4.5MMX3.53XM3.0X0.5 ROUND THR .635"L BRASS; AGILE_PN: 280-76498; MFG_NAME01: UNICORP; MFG_PN01: MSS251-R-1-A-16; ASSY_OPT: DNP; CAD_APPROVED: Yes; PCB DECAL: T4R2-6R2_BOTSMT; Source_Path: H:\NXP_RT1050\SCH\IMXRT1052.DSN; CLASS: IC; ROHS: Yes; HEIGHT: 16.13MM
footprint T4R2-6R2_BOTSMT
pins: 1 NC_1

## SW_DIP-7_0
designator SW?  value CHS-08B  (hidden comment: SW_DIP-7_0)
Source_Path: F:\SCH-PCB\EBF_L002\SCH\EBF_L002.DSN; PCB DECAL: CHS-08B
footprint CHS-08B
pins: 1 A1, 2 A2, 3 A3, 4 A4, 5 A5, 6 A6, 7 A7, 8 A8, 9 B8, 10 B7, 11 B6, 12 B5, 13 B4, 14 B3, 15 B2, 16 B1

## SW_PB_ESW_0
designator SW?  value SPST PB  (hidden comment: SW_PB_ESW_0)
SW SPST MOM NO PB TACT 50mA 50V SMT; PCB DECAL: SW_3_2X4_2; AGILE_PN: 510-77562; MFG_NAME01: E SWITCH; MFG_PN01: TL3301AF260QG/TR; CAD_APPROVED: Yes; Source_Path: H:\NXP_RT1050\SCH\IMXRT1052_MB.DSN; CLASS: IC; ROHS: Yes; HEIGHT: 5MM
footprint SW_3_2X4_2
pins: 1 A1, 2 A2, 3 B1, 4 B2

## SY6280AAC
designator U?  value MT9700  (hidden comment: SY6280AAC)
PCB DECAL: SOT23-5; Source_Path: G:\开发板代码\郭老师资料\IMX6资料\原理图\SABRESDB_DESIGNFILES\DEVELOP\LIBRARY1.OLB
footprint SOT23-5
pins: 1 OUT, 2 GND, 3 ISET, 4 EN, 5 IN

## TYPE-C-31-M-12
designator J?
Source_Path: C:\MYPROGRAM\CADENCE\SPB_16.6\TOOLS\CAPTURE\LIBRARY\SCH.OLB; PCB DECAL: TYPE-C-31-M-12; Value: TYPE-C-31-M-12
footprint TYPE-C-31-M-12
pins: A1 GND1, A4 VBUS1, A5 CC1, A6 DP1, A7 DN1, A8 SBU1, A9 VBUS2, A12 GND2, B1 GND4, B4 VBUS4, B5 CC2, B6 DP2, B7 DN2, B8 SBU2, B9 VBUS3, B12 GND3, C1 SH1, C2 SH2, C3 SH3, C4 SH4, C5 SH5, C6 SH6

## USB_CONN.__FEM__TYPE_A___TH__RA
designator J?  value USBConn_typeA  (hidden comment: USB_CONN.__FEM__TYPE_A___TH__RA)
PCB DECAL: USB-A-SM; Source_Path: O:\CONNECTORS.OLB; P/N: 180K00400S; CLABCONF0: = SB-SOM
footprint USB-A-SM
pins: 1 VBUS, 2 D-, 3 D+, 4 GND, 5 SHELL_1, 6 SHELL_2

## ZDIODE_0
designator D?  value SMAJ5.0CA  (hidden comment: ZDIODE_0)
DIODE ZNR -- 0.2W 5.1V AEC-Q101 SOD523; AGILE_PN: 480-77217; MFG_NAME01: ON SEMICONDUCTOR; MFG_PN01: MM5Z5V1ST1G; CAD_APPROVED: Yes; PCB DECAL: DO214; Source_Path: H:\NXP_RT1050\SCH\IMXRT1052_MB.DSN; CLASS: IC; ROHS: Yes; HEIGHT: 0.7MM
footprint DO214
pins: 1 ANODE, 2 CATHODE

## ZDIODE_1
designator D?  value MM5Z5V1ST1G  (hidden comment: ZDIODE_1)
DIODE ZNR -- 0.2W 5.1V AEC-Q101 SOD523; AGILE_PN: 480-77217; MFG_NAME01: ON SEMICONDUCTOR; CAD_APPROVED: Yes; Source_Path: F:\SCH-PCB\EBF_L007\EBF6ULL_MINI_V1.0\SCH\EBF_L007_PWR_190822.DSN; CLASS: IC; PCB DECAL: SOD523; MFG_PN01: MM5Z5V1ST1G; ROHS: Yes; HEIGHT: 0.7MM
footprint SOD523
pins: 1 ANODE, 2 CATHODE